# EAGLE library part OPENAG-SENSORS_CCS811 (library PFCEDU_V3)
LOW POWER DIGITAL SENSOR FOR IND Description: Air Quality Sensor I²C Technical Specifications: Type: Air Quality Output: I²C Operating Temperature: -5°C ~ 50°C Voltage - Supply: 1.8 V ~ 3.6 V Current - Supply: 26mA Datasheet(s): CCS811 Datasheet <http://ams.com/eng/content/download/951091/2269479/471718> CCS811 Factsheet <http://ams.com/eng/content/view/download/490399> Vendor(s): Digikey: CCS811CT-ND <https://www.digikey.com/product-detail/en/ams/CCS811/CCS811CT-ND/6569300>
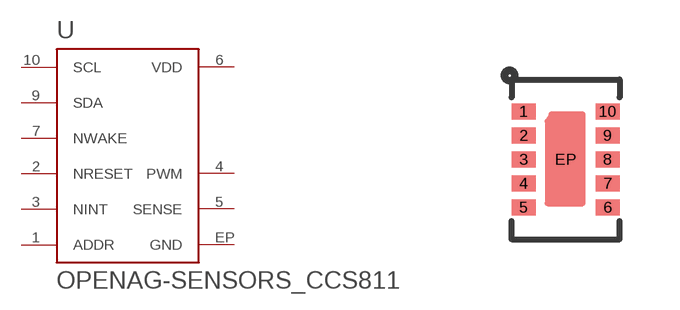
[diagram p6: symbol with the pads of OPENAG-SENSORS_CCS811; footprint OPENAG-SENSORS_CCS811]

Designator prefix U

## OPENAG-SENSORS_CCS811 (MANUFACTURER: ams; MPN: CCS811; VALUE: CCS811; VENDOR: Digikey; VLINK: https://www.digikey.com/product-detail/en/ams/CCS811/CCS811CT-ND/6569300; VPN: CCS811CT-ND)  [OPENAG-SENSORS_CCS811]
1  ADDR
2  NRESET
3  NINT
4  PWM
5  SENSE
6  VDD  pwr
7  NWAKE
9  SDA
10  SCL
EP  GND  pwr

## Footprint OPENAG-SENSORS_CCS811 (pad centres in mm)
smd 0.6 x 0.4: 1 -1.05,1.2; 2 -1.05,0.6; 3 -1.05,0; 4 -1.05,-0.6; 5 -1.05,-1.2; 6 1.05,-1.2; 7 1.05,-0.6; 8 1.05,0; 9 1.05,0.6; 10 1.05,1.2; EP 0,0